# Altium footprint library PCB_Components.PcbLib: 38 footprints (part 2 of 3)
Each footprint in its own frame and in the unit in brackets; x right, y up, seen from the top. Pads: shape width x height; smd on the part's side, far side on the other; paste and mask are expansions set on the pad; w line width, h text height; cw(c..) or ccw(c..) is an arc to the next point about the centre after c.
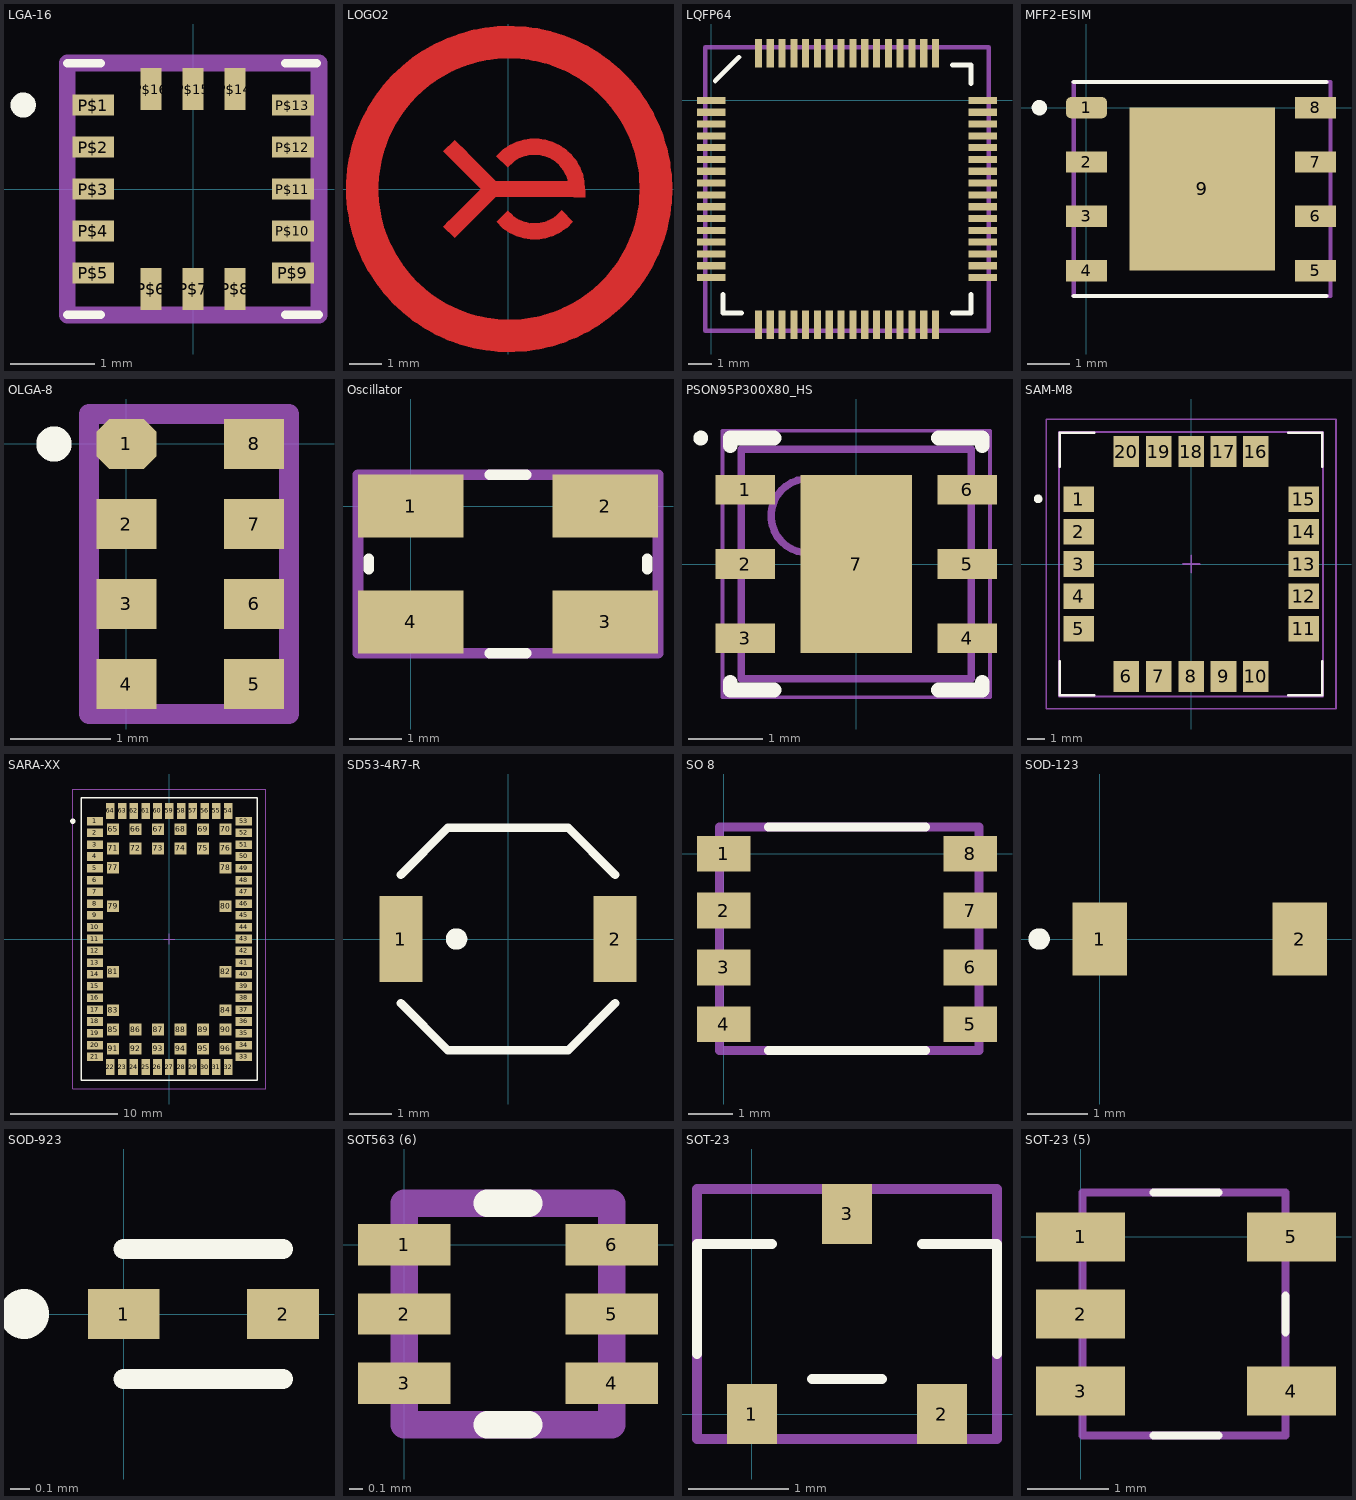
[diagram p1: the footprints below, top view; thin cyan lines are the x and y axes]

## LGA-16 [mm]
pads (16):
  rect 0.5x0.25 smd: P$1(-1.19,1) P$2(-1.19,0.5) P$3(-1.19,0) P$4(-1.19,-0.5) P$5(-1.19,-1) P$9(1.19,-1) P$10(1.19,-0.5) P$11(1.19,0) P$12(1.19,0.5) P$13(1.19,1)
  rect 0.25x0.5 smd: P$6(-0.5,-1.19) P$7(0,-1.19) P$8(0.5,-1.19) P$14(0.5,1.19) P$15(0,1.19) P$16(-0.5,1.19)
Top Overlay:
  circle w0.2: c-2.025,1 r0.05
  lines w0.1: -1.5,-1.5 -1.1,-1.5 ; -1.5,1.5 -1.1,1.5 ; 1.1,-1.5 1.5,-1.5 ; 1.1,1.5 1.475,1.5
RefDes Top:
  lines w0.2: -1.5,-1.5 1.5,-1.5 1.5,1.5 -1.5,1.5 -1.5,-1.5
Component out-line:
  lines w0.2: -1.5,-1.5 1.5,-1.5 1.5,1.5 -1.5,1.5 -1.5,-1.5
3D body "User Library-L3GD20H.step": height 0.79, standoff -0.2, extent -1.5,-1.5 1.5,1.5

## LOGO2 [mm] "LOGO2"
Top Layer:
  region: -2,-1.15 -1.825,-0.975 -1.475,-1.325 -1.65,-1.5
  region: -2,1.15 -1.65,1.5 -1.27,1.12 -1.62,0.77
  region: 1.625,-0.655 1.449,-0.831 1.798,-1.182 1.975,-1.005
  region: 0.13,-0.81 -0.015,-0.665 -0.36,-1.01 -0.18,-1.2
  region: 2,-0.25 2.35,-0.25 2.35,0 2,0
  region: -0.18,1.2 -0.37,1.01 -0.02,0.66 0.16,0.84
  lines w0.5: -1.65,-1.15 -0.5,0 ; -1.65,1.15 -0.5,0 ; -0.012,-1.015 ccw(c0.8,0) 1.623,-1.006 ; -0.012,1.015 cw(c0.8,0) 2.1,0 ; 2,0 0,0 -0.5,0
  lines w1: 4.52,0 cw(c0.02,0) 4.52,0.023
Top Solder:
  circle w1: c0,0 r4.581
  region: -4.61,0.13 -4.61,1.09 -3.83,1.87 -3.83,2.48 -2.94,3.37 -2.94,3.47 -2.73,3.47 -1.68,4.52 1.38,4.52 2.3,3.6 3.12,3.6 3.12,3.21 4.49,1.84 4.49,-1.65 3.23,-2.91 3.23,-3.6 2.63,-4.2 0.19,-4.2 -0.19,-4.58 -1.57,-4.58 -3.24,-2.91 -3.41,-2.91 -3.41,-2.76 -4.32,-1.85

## LQFP64 [mm]
pads (64):
  rect 1.2x0.3 smd mask+0.05: 1(0,0) 2(0,-0.5) 3(0,-1) 4(0,-1.5) 5(0,-2) 6(0,-2.5) 7(0,-3) 8(0,-3.5) 9(0,-4) 10(0,-4.5) 11(0,-5) 12(0,-5.5) 13(0,-6) 14(0,-6.5) 15(0,-7) 16(0,-7.5) 33(11.5,-7.5) 34(11.5,-7) 35(11.5,-6.5) 36(11.5,-6) 37(11.5,-5.5) 38(11.5,-5) 39(11.5,-4.5) 40(11.5,-4) 41(11.5,-3.5) 42(11.5,-3) 43(11.5,-2.5) 44(11.5,-2) 45(11.5,-1.5) 46(11.5,-1) 47(11.5,-0.5) 48(11.5,0)
  rect 0.3x1.2 smd mask+0.05: 17(2,-9.5) 18(2.5,-9.5) 19(3,-9.5) 20(3.5,-9.5) 21(4,-9.5) 22(4.5,-9.5) 23(5,-9.5) 24(5.5,-9.5) 25(6,-9.5) 26(6.5,-9.5) 27(7,-9.5) 28(7.5,-9.5) 29(8,-9.5) 30(8.5,-9.5) 31(9,-9.5) 32(9.5,-9.5) 49(9.5,2) 50(9,2) 51(8.5,2) 52(8,2) 53(7.5,2) 54(7,2) 55(6.5,2) 56(6,2) 57(5.5,2) 58(5,2) 59(4.5,2) 60(4,2) 61(3.5,2) 62(3,2) 63(2.5,2) 64(2,2)
Top Overlay:
  lines w0.2: 0.175,0.825 1.175,1.825 ; 0.5,-8.2 0.5,-9 1.3,-9 ; 10.2,-9 11,-9 11,-8.2 ; 10.2,1.5 11,1.5 11,0.7
RefDes Top:
  lines w0.2: -0.25,-9.75 -0.25,2.25 11.75,2.25 11.75,-9.75 -0.25,-9.75
Component out-line:
  lines w0.2: -0.25,-9.75 11.75,-9.75 11.75,2.25 -0.25,2.25 -0.25,-9.75
3D body "QFP50P1200X1200X120-64N_JEDEC_MS-026ACD.STEP": height 1.2, standoff 0, extent -0.259,-9.758 11.759,2.259

## MFF2-ESIM [mm]
pads (9):
  rrect50% 0.96x0.5 smd mask+0.05: 1(0,0)
  rect 0.96x0.5 smd mask+0.05: 2(0,-1.27) 3(0,-2.54) 4(0,-3.81) 5(5.35,-3.81) 6(5.35,-2.54) 7(5.35,-1.27) 8(5.35,0)
  rect 3.4x3.8 smd mask+0.05: 9(2.7,-1.9)
Top Overlay:
  circle w0.2: c-1.1,0 r0.079
  lines w0.1: -0.3,-4.4 5.6,-4.4 ; -0.3,0.6 5.6,0.6
RefDes Top:
  lines w0.1: -0.3,-4.4 -0.3,0.6 5.7,0.6 5.7,-4.4 -0.3,-4.4
Component out-line:
  lines w0.1: -0.3,-4.4 -0.3,0.6 5.7,0.6 5.7,-4.4 -0.3,-4.4
3D body "PG-VQFN-8-4-L.step": height 0.84, standoff 0, extent -0.322,-4.427 5.672,0.577

## OLGA-8 [mm]
pads (8):
  oct 0.6x0.5 smd paste+0 mask+0.05: 1(0,0)
  rect 0.6x0.5 smd paste+0 mask+0.05: 2(0,-0.8) 3(0,-1.6) 4(0,-2.4) 5(1.276,-2.4) 6(1.276,-1.6) 7(1.276,-0.8) 8(1.276,0)
Top Overlay:
  circle w0.254: c-0.725,0 r0.05
RefDes Top:
  lines w0.2: -0.375,-2.7 -0.375,0.3 1.625,0.3 1.625,-2.7 -0.375,-2.7
Component out-line:
  lines w0.2: -0.375,-2.7 -0.375,0.3 1.625,0.3 1.625,-2.7 -0.375,-2.7
3D body "AS7341 v1.step": height 1, standoff 0, extent -0.375,-2.7 1.625,0.3

## Oscillator [mm] "4Pin 5x3.2"
pads (4):
  rect 2x1.2 smd mask+0.05: 1(0,0) 2(3.7,0) 3(3.7,-2.2) 4(0,-2.2)
Top Overlay:
  lines w0.2: -0.8,-1.2 -0.8,-1 ; 1.5,-2.8 2.2,-2.8 ; 1.5,0.6 2.2,0.6 ; 4.5,-1.2 4.5,-1
RefDes Top:
  lines w0.2: -1,-2.8 4.7,-2.8 4.7,0.6 -1,0.6 -1,-2.8
Component out-line:
  lines w0.2: -1,-2.8 4.7,-2.8 4.7,0.6 -1,0.6 -1,-2.8
3D body "User Library-crystal_smd_52x34x1.step": height 1, standoff 0, extent -0.75,-2.8 4.45,0.6

## PSON95P300X80_HS [mm] "PSON, 6-Leads, Body 3,00x3,00mm, Pitch 0,95mm, Thermal Pad 2,40x1,50mm, IPC Medium Density"
height 0.8
pads (7):
  rect 0.8x0.4 smd: 1(-1.5,1) 2(-1.5,0) 3(-1.5,-1) 4(1.5,-1) 5(1.5,0) 6(1.5,1)
  rect 1.5x2.4 smd: 7(0,0)
Top Overlay:
  circle w0.1: c-2.1,1.7 r0.05
  lines w0.2: -1.7,-1.6 -1.7,-1.7 -1.11,-1.7 ; -1.7,1.6 -1.7,1.7 -1.11,1.7 ; 1.11,-1.7 1.7,-1.7 1.7,-1.6 ; 1.11,1.7 1.7,1.7 1.7,1.6
Assembly Top:
  circle w0.1: c-0.65,0.65 r0.5
  lines w0.1: -1.55,-1.55 1.55,-1.55 1.55,1.55 -1.55,1.55 -1.55,-1.55
Component out-line:
  lines w0.05: -1.805,-1.8 1.805,-1.8 1.805,1.8 -1.805,1.8 -1.805,-1.8
  lines w0.1: -0.5,0 0.5,0 ; 0,-0.5 0,0.5
3D body "PSON95P300X80_HS-7N.step": height 0.8, standoff 0, extent -1.551,-1.55 1.551,1.55

## SAM-M8 [mm] "ublox SAM antenna module"
pads (20):
  rect 1.8x1.5 smd paste-1.8: 1(-6.6,3.8) 2(-6.6,1.9) 3(-6.6,0) 4(-6.6,-1.9) 5(-6.6,-3.8) 11(6.6,-3.8) 12(6.6,-1.9) 13(6.6,0) 14(6.6,1.9) 15(6.6,3.8)
  rect 1.5x1.8 smd paste-1.8: 6(-3.8,-6.6) 7(-1.9,-6.6) 8(0,-6.6) 9(1.9,-6.6) 10(3.8,-6.6) 16(3.8,6.6) 17(1.9,6.6) 18(0,6.6) 19(-1.9,6.6) 20(-3.8,6.6)
Top Overlay:
  circle w0.254: c-8.975,3.825 r0.127
  lines w0.15: -7.7,-5.7 -7.7,-7.7 -5.7,-7.7 ; -7.7,5.7 -7.7,7.7 -5.7,7.7 ; 5.7,-7.7 7.7,-7.7 7.7,-5.7 ; 5.7,7.7 7.7,7.7 7.7,5.7
Top Paste:
  region: 7.471,3.665 6.752,3.665 6.752,3.085 7.471,3.085
  region: 7.467,4.502 6.748,4.502 6.748,3.922 7.467,3.922
  region: 6.453,3.669 5.734,3.669 5.734,3.089 6.453,3.089
  region: 6.453,4.499 5.734,4.499 5.734,3.919 6.453,3.919
  region: 7.467,1.769 6.748,1.769 6.748,1.189 7.467,1.189
  region: 7.463,2.606 6.744,2.606 6.744,2.026 7.463,2.026
  region: 6.449,1.773 5.73,1.773 5.73,1.193 6.449,1.193
  region: 6.449,2.603 5.73,2.603 5.73,2.023 6.449,2.023
  region: 7.467,-2.037 6.748,-2.037 6.748,-2.617 7.467,-2.617
  region: 7.463,-1.2 6.744,-1.2 6.744,-1.78 7.463,-1.78
  region: 6.449,-2.033 5.73,-2.033 5.73,-2.613 6.449,-2.613
  region: 6.449,-1.203 5.73,-1.203 5.73,-1.783 6.449,-1.783
  region: -5.731,-3.933 -6.45,-3.933 -6.45,-4.513 -5.731,-4.513
  region: -5.735,-3.096 -6.454,-3.096 -6.454,-3.676 -5.735,-3.676
  region: -6.749,-3.929 -7.468,-3.929 -7.468,-4.509 -6.749,-4.509
  region: -6.749,-3.099 -7.468,-3.099 -7.468,-3.679 -6.749,-3.679
  region: -5.731,-2.037 -6.45,-2.037 -6.45,-2.617 -5.731,-2.617
  region: -5.735,-1.2 -6.454,-1.2 -6.454,-1.78 -5.735,-1.78
  region: -6.749,-2.033 -7.468,-2.033 -7.468,-2.613 -6.749,-2.613
  region: -6.749,-1.203 -7.468,-1.203 -7.468,-1.783 -6.749,-1.783
  region: -5.731,1.769 -6.45,1.769 -6.45,1.189 -5.731,1.189
  region: -5.735,2.606 -6.454,2.606 -6.454,2.026 -5.735,2.026
  region: -6.749,1.773 -7.468,1.773 -7.468,1.193 -6.749,1.193
  region: -6.749,2.603 -7.468,2.603 -7.468,2.023 -6.749,2.023
  region: -6.749,4.508 -7.468,4.508 -7.468,3.928 -6.749,3.928
  region: -6.749,3.678 -7.468,3.678 -7.468,3.098 -6.749,3.098
  region: -5.735,4.511 -6.454,4.511 -6.454,3.931 -5.735,3.931
  region: -5.731,3.674 -6.45,3.674 -6.45,3.094 -5.731,3.094
  region: 2.594,6.746 2.594,7.465 2.014,7.465 2.014,6.746
  region: 1.764,6.746 1.764,7.465 1.184,7.465 1.184,6.746
  region: 2.597,5.732 2.597,6.451 2.017,6.451 2.017,5.732
  region: 1.76,5.728 1.76,6.447 1.18,6.447 1.18,5.728
  region: -1.193,6.741 -1.193,7.46 -1.773,7.46 -1.773,6.741
  region: -2.023,6.741 -2.023,7.46 -2.603,7.46 -2.603,6.741
  region: -1.19,5.727 -1.19,6.446 -1.77,6.446 -1.77,5.727
  region: -2.027,5.723 -2.027,6.442 -2.607,6.442 -2.607,5.723
  region: -0.126,-7.473 -0.126,-6.754 -0.706,-6.754 -0.706,-7.473
  region: 0.711,-7.469 0.711,-6.75 0.131,-6.75 0.131,-7.469
  region: -0.122,-6.455 -0.122,-5.736 -0.702,-5.736 -0.702,-6.455
  region: 0.708,-6.455 0.708,-5.736 0.128,-5.736 0.128,-6.455
  region: -2.032,-7.466 -2.032,-6.747 -2.612,-6.747 -2.612,-7.466
  region: -1.195,-7.462 -1.195,-6.743 -1.775,-6.743 -1.775,-7.462
  region: -2.028,-6.448 -2.028,-5.729 -2.608,-5.729 -2.608,-6.448
  region: -1.198,-6.448 -1.198,-5.729 -1.778,-5.729 -1.778,-6.448
  region: -3.098,-6.455 -3.098,-5.736 -3.678,-5.736 -3.678,-6.455
  region: -3.928,-6.455 -3.928,-5.736 -4.508,-5.736 -4.508,-6.455
  region: -3.095,-7.469 -3.095,-6.75 -3.675,-6.75 -3.675,-7.469
  region: -3.932,-7.473 -3.932,-6.754 -4.512,-6.754 -4.512,-7.473
  region: 2.604,-6.446 2.604,-5.727 2.024,-5.727 2.024,-6.446
  region: 1.774,-6.446 1.774,-5.727 1.194,-5.727 1.194,-6.446
  region: 2.607,-7.46 2.607,-6.741 2.027,-6.741 2.027,-7.46
  region: 1.77,-7.464 1.77,-6.745 1.19,-6.745 1.19,-7.464
  region: 3.666,-7.473 3.666,-6.754 3.086,-6.754 3.086,-7.473
  region: 4.503,-7.469 4.503,-6.75 3.923,-6.75 3.923,-7.469
  region: 3.67,-6.455 3.67,-5.736 3.09,-5.736 3.09,-6.455
  region: 4.5,-6.455 4.5,-5.736 3.92,-5.736 3.92,-6.455
  region: -3.937,5.732 -3.937,6.451 -4.517,6.451 -4.517,5.732
  region: -3.1,5.736 -3.1,6.455 -3.68,6.455 -3.68,5.736
  region: -3.933,6.75 -3.933,7.469 -4.513,7.469 -4.513,6.75
  region: -3.103,6.75 -3.103,7.469 -3.683,7.469 -3.683,6.75
  region: -0.131,5.732 -0.131,6.451 -0.711,6.451 -0.711,5.732
  region: 0.706,5.736 0.706,6.455 0.126,6.455 0.126,5.736
  region: -0.127,6.75 -0.127,7.469 -0.707,7.469 -0.707,6.75
  region: 0.703,6.75 0.703,7.469 0.123,7.469 0.123,6.75
  region: 3.665,5.732 3.665,6.451 3.085,6.451 3.085,5.732
  region: 4.502,5.736 4.502,6.455 3.922,6.455 3.922,5.736
  region: 3.669,6.75 3.669,7.469 3.089,7.469 3.089,6.75
  region: 4.499,6.75 4.499,7.469 3.919,7.469 3.919,6.75
  region: -6.749,0.698 -7.468,0.698 -7.468,0.118 -6.749,0.118
  region: -6.749,-0.132 -7.468,-0.132 -7.468,-0.712 -6.749,-0.712
  region: -5.735,0.701 -6.454,0.701 -6.454,0.121 -5.735,0.121
  region: -5.731,-0.136 -6.45,-0.136 -6.45,-0.716 -5.731,-0.716
  region: 6.449,-3.099 5.73,-3.099 5.73,-3.679 6.449,-3.679
  region: 6.449,-3.929 5.73,-3.929 5.73,-4.509 6.449,-4.509
  region: 7.463,-3.096 6.744,-3.096 6.744,-3.676 7.463,-3.676
  region: 7.467,-3.933 6.748,-3.933 6.748,-4.513 7.467,-4.513
  region: 6.449,0.698 5.73,0.698 5.73,0.118 6.449,0.118
  region: 6.449,-0.132 5.73,-0.132 5.73,-0.712 6.449,-0.712
  region: 7.463,0.701 6.744,0.701 6.744,0.121 7.463,0.121
  region: 7.467,-0.136 6.748,-0.136 6.748,-0.716 7.467,-0.716
Assembly Top:
  lines w0.1: -7.751,-7.774 -7.751,7.741 7.74,7.741 7.74,-7.774 -7.751,-7.774
Component out-line:
  lines w0.1: -0.5,0 0,0 0.5,0 ; 0,-0.5 0,0.5 ; -8.5,-8.5 8.5,-8.5 8.5,8.5 -8.5,8.5 -8.5,-8.5
  text ".Designator" at 0.1,0.433 h1
3D body: height 6.8, standoff 0, extent -7.751,-7.775 7.741,7.741

## SARA-XX [mm] "GSM/GPRS and GSM/EGPRS/HSPA Cellular Module"
height 3.25
pads (96):
  rect 1.5x0.8 smd paste-1: 1(-6.95,11) 2(-6.95,9.9) 3(-6.95,8.8) 4(-6.95,7.7) 5(-6.95,6.6) 6(-6.95,5.5) 7(-6.95,4.4) 8(-6.95,3.3) 9(-6.95,2.2) 10(-6.95,1.1) 11(-6.95,0) 12(-6.95,-1.1) 13(-6.95,-2.2) 14(-6.95,-3.3) 15(-6.95,-4.4) 16(-6.95,-5.5) 17(-6.95,-6.6) 18(-6.95,-7.7) 19(-6.95,-8.8) 20(-6.95,-9.9) 21(-6.95,-11) 33(6.95,-11) 34(6.95,-9.9) 35(6.95,-8.8) 36(6.95,-7.7) 37(6.95,-6.6) 38(6.95,-5.5) 39(6.95,-4.4) 40(6.95,-3.3) 41(6.95,-2.2) 42(6.95,-1.1) 43(6.95,0) 44(6.95,1.1) 45(6.95,2.2) 46(6.95,3.3) 47(6.95,4.4) 48(6.95,5.5) 49(6.95,6.6) 50(6.95,7.7) 51(6.95,8.8) 52(6.95,9.9) 53(6.95,11)
  rect 0.8x1.5 smd paste-1: 22(-5.5,-11.95) 23(-4.4,-11.95) 24(-3.3,-11.95) 25(-2.2,-11.95) 26(-1.1,-11.95) 27(0,-11.95) 28(1.1,-11.95) 29(2.2,-11.95) 30(3.3,-11.95) 31(4.4,-11.95) 32(5.5,-11.95) 54(5.5,11.95) 55(4.4,11.95) 56(3.3,11.95) 57(2.2,11.95) 58(1.1,11.95) 59(0,11.95) 60(-1.1,11.95) 61(-2.2,11.95) 62(-3.3,11.95) 63(-4.4,11.95) 64(-5.5,11.95)
  rect 1.1x1.1 smd paste-0.025: 65(-5.25,10.25) 66(-3.15,10.25) 67(-1.05,10.25) 68(1.05,10.25) 69(3.15,10.25) 70(5.25,10.25) 71(-5.25,8.45) 72(-3.15,8.45) 73(-1.05,8.45) 74(1.05,8.45) 75(3.15,8.45) 76(5.25,8.45) 77(-5.25,6.65) 78(5.25,6.65) 79(-5.25,3.05) 80(5.25,3.05) 81(-5.25,-3.05) 82(5.25,-3.05) 83(-5.25,-6.65) 84(5.25,-6.65) 85(-5.25,-8.45) 86(-3.15,-8.45) 87(-1.05,-8.45) 88(1.05,-8.45) 89(3.15,-8.45) 90(5.25,-8.45) 91(-5.25,-10.25) 92(-3.15,-10.25) 93(-1.05,-10.25) 94(1.05,-10.25) 95(3.15,-10.25) 96(5.25,-10.25)
Top Overlay:
  circle w0.4: c-9,11 r0.05
  lines w0.15: -8.2,-13.2 -8.2,13.2 8.2,13.2 8.2,-13.2 -8.2,-13.2
Top Paste:
  region: -5.125,11.225 -5.125,12.775 -5.875,12.775 -5.875,11.225
  region: -4.025,11.225 -4.025,12.775 -4.775,12.775 -4.775,11.225
  region: -2.925,11.225 -2.925,12.775 -3.675,12.775 -3.675,11.225
  region: -1.825,11.225 -1.825,12.775 -2.575,12.775 -2.575,11.225
  region: -0.725,11.225 -0.725,12.775 -1.475,12.775 -1.475,11.225
  region: 0.375,11.225 0.375,12.775 -0.375,12.775 -0.375,11.225
  region: 1.475,11.225 1.475,12.775 0.725,12.775 0.725,11.225
  region: 5.875,11.225 5.875,12.775 5.125,12.775 5.125,11.225
  region: 2.575,11.225 2.575,12.775 1.825,12.775 1.825,11.225
  region: 3.675,11.225 3.675,12.775 2.925,12.775 2.925,11.225
  region: 4.775,11.225 4.775,12.775 4.025,12.775 4.025,11.225
  rectangle: 6.225,10.625 7.775,11.375
  rectangle: 6.225,9.525 7.775,10.275
  rectangle: 6.225,8.425 7.775,9.175
  rectangle: 6.225,7.325 7.775,8.075
  rectangle: 6.225,6.225 7.775,6.975
  rectangle: 6.225,5.125 7.775,5.875
  rectangle: 6.225,4.025 7.775,4.775
  rectangle: 6.225,2.925 7.775,3.675
  rectangle: 6.225,1.825 7.775,2.575
  rectangle: 6.225,0.725 7.775,1.475
  rectangle: 6.225,-0.375 7.775,0.375
  rectangle: 6.225,-1.475 7.775,-0.725
  rectangle: 6.225,-2.575 7.775,-1.825
  rectangle: 6.225,-3.675 7.775,-2.925
  rectangle: 6.225,-4.775 7.775,-4.025
  rectangle: 6.225,-5.875 7.775,-5.125
  rectangle: 6.225,-6.975 7.775,-6.225
  rectangle: 6.225,-8.075 7.775,-7.325
  rectangle: 6.225,-9.175 7.775,-8.425
  rectangle: 6.225,-10.275 7.775,-9.525
  rectangle: 6.225,-11.375 7.775,-10.625
  region: 5.875,-12.775 5.875,-11.225 5.125,-11.225 5.125,-12.775
  region: 4.775,-12.775 4.775,-11.225 4.025,-11.225 4.025,-12.775
  region: 3.675,-12.775 3.675,-11.225 2.925,-11.225 2.925,-12.775
  region: 2.575,-12.775 2.575,-11.225 1.825,-11.225 1.825,-12.775
  region: 1.475,-12.775 1.475,-11.225 0.725,-11.225 0.725,-12.775
  region: 0.375,-12.775 0.375,-11.225 -0.375,-11.225 -0.375,-12.775
  region: -0.725,-12.775 -0.725,-11.225 -1.475,-11.225 -1.475,-12.775
  region: -1.825,-12.775 -1.825,-11.225 -2.575,-11.225 -2.575,-12.775
  region: -2.925,-12.775 -2.925,-11.225 -3.675,-11.225 -3.675,-12.775
  region: -4.025,-12.775 -4.025,-11.225 -4.775,-11.225 -4.775,-12.775
  region: -5.125,-12.775 -5.125,-11.225 -5.875,-11.225 -5.875,-12.775
  rectangle: -7.775,-11.375 -6.225,-10.625
  rectangle: -7.775,-10.275 -6.225,-9.525
  rectangle: -7.775,-9.175 -6.225,-8.425
  rectangle: -7.775,-8.075 -6.225,-7.325
  rectangle: -7.775,-6.975 -6.225,-6.225
  rectangle: -7.775,-5.875 -6.225,-5.125
  rectangle: -7.775,-4.775 -6.225,-4.025
  rectangle: -7.775,-3.675 -6.225,-2.925
  rectangle: -7.775,-2.575 -6.225,-1.825
  rectangle: -7.775,-1.475 -6.225,-0.725
  rectangle: -7.775,-0.375 -6.225,0.375
  rectangle: -7.775,0.725 -6.225,1.475
  rectangle: -7.775,1.825 -6.225,2.575
  rectangle: -7.775,2.925 -6.225,3.675
  rectangle: -7.775,4.025 -6.225,4.775
  rectangle: -7.775,5.125 -6.225,5.875
  rectangle: -7.775,6.225 -6.225,6.975
  rectangle: -7.775,7.325 -6.225,8.075
  rectangle: -7.775,8.425 -6.225,9.175
  rectangle: -7.775,9.525 -6.225,10.275
  rectangle: -7.775,10.625 -6.225,11.375
Component out-line:
  lines w0.05: -9,-14 -9,14 9,14 9,-14 -9,-14
  lines w0.1: -0.5,0 0,0 0.5,0 ; 0,-0.5 0,0.5
  text ".Designator" at 0.1,0.433 h1
3D body "SARA.STEP": height 0.13, standoff -2.87, extent -8,-13.05 8,12.95
3D body: height 3.25, standoff 0, extent -8,-13 8,13

## SD53-4R7-R [mm]
pads (2):
  rect 1x2 smd mask+0.05: 1(-2.5,0) 2(2.5,0)
Top Overlay:
  circle w0.3: c-1.2,0 r0.1
  lines w0.2: -2.5,-1.5 -1.4,-2.6 1.4,-2.6 2.5,-1.5 ; -2.5,1.5 -1.4,2.6 1.4,2.6 2.5,1.5
3D body "SD53 v3.step": height 3, standoff 0, extent -2.6,-2.6 2.6,2.6

## SO 8 [mm]
pads (8):
  rect 1.2x0.8 smd mask+0.05: 1(0,0) 2(0,-1.27) 3(0,-2.54) 4(0,-3.81) 5(5.5,-3.81) 6(5.5,-2.54) 7(5.5,-1.27) 8(5.5,0)
Top Overlay:
  lines w0.2: 1,-4.4 4.5,-4.4 ; 1,0.6 4.5,0.6
  text "." at -1.446,-0.046 h1.52
RefDes Top:
  lines w0.2: -0.1,-4.4 5.7,-4.4 5.7,0.6 -0.1,0.6 -0.1,-4.4
Component out-line:
  lines w0.2: -0.1,-4.4 5.7,-4.4 5.7,0.6 -0.1,0.6 -0.1,-4.4
3D body "CircuitWorks-SO-8.STEP": height 1.45, standoff 0, extent -0.089,-4.4 5.689,0.502

## SOD-123 [mm]
pads (2):
  rect 0.9x1.2 smd mask+0.05: 1(0,0) 2(3.3,0)
Top Overlay:
  circle w0.254: c-1,0 r0.05
3D body "SDO_SOD-123_425-04_ONS-L.step": height 1.35, standoff 0, extent -0.28,-0.902 3.58,0.902

## SOD-923 [mm]
pads (2):
  rect 0.36x0.25 smd mask+0.05: 1(0,0) 2(0.8,0)
Top Overlay:
  circle w0.2: c-0.5,0 r0.025
  lines w0.1: 0,-0.325 0.8,-0.325 ; 0,0.325 0.8,0.325
3D body "User Library-DIODE_SOD-923.step": height 0.43, standoff 0, extent -0.125,-0.325 0.925,0.325

## SOT563 (6) [mm] "SOT563 (6)"
pads (6):
  rect 0.67x0.3 smd mask+0.05: 1(0,0) 2(0,-0.5) 3(0,-1) 4(1.5,-1) 5(1.5,-0.5) 6(1.5,0)
Top Overlay:
  lines w0.2: 0.6,-1.3 0.9,-1.3 ; 0.6,0.3 0.9,0.3
  text "." at -0.446,0.554 h0.5
RefDes Top:
  lines w0.2: 0,-1.3 0,0.3 1.5,0.3 1.5,-1.3 0,-1.3
Component out-line:
  lines w0.2: 0,-1.3 0,0.3 1.5,0.3 1.5,-1.3 0,-1.3
3D body "User Library-SOT-563.STEP": height 0.58, standoff 0, extent -0.063,-1.3 1.563,0.3

## SOT-23 [mm]
pads (3):
  rect 0.5x0.6 smd mask+0.05: 1(0,0) 2(1.9,0) 3(0.95,2)
Top Overlay:
  lines w0.1: -0.55,0.6 -0.55,1.7 0.2,1.7 ; 0.6,0.35 0.825,0.35 1.3,0.35 ; 1.7,1.7 2.45,1.7 2.45,0.6
RefDes Top:
  lines w0.1: -0.55,-0.25 -0.55,2.25 2.45,2.25 2.45,-0.25 -0.55,-0.25
Component out-line:
  lines w0.1: -0.55,-0.25 -0.55,2.25 2.45,2.25 2.45,-0.25 -0.55,-0.25
3D body "CircuitWorks-SOT-23.step": height 1.1, standoff 0, extent -0.55,-0.25 2.45,2.25

## SOT-23 (5) [mm]
pads (5):
  rect 1.1x0.6 smd mask+0.05: 1(0,0) 2(0,-0.95) 3(0,-1.9) 4(2.6,-1.9) 5(2.6,0)
Top Overlay:
  lines w0.1: 0.9,-2.45 1.7,-2.45 ; 0.9,0.55 1.7,0.55 ; 2.525,-1.175 2.525,-0.725
RefDes Top:
  lines w0.1: 0.025,-2.45 2.525,-2.45 2.525,0.55 0.025,0.55 0.025,-2.45
Component out-line:
  lines w0.1: 0.025,-2.45 2.525,-2.45 2.525,0.55 0.025,0.55 0.025,-2.45
3D body "CircuitWorks-SOT-23-5.step": height 1.05, standoff -0.05, extent 0.025,-2.45 2.525,0.55